# Altium footprint library linear regulators.PcbLib: 1 footprints
Each footprint in its own frame and in the unit in brackets; x right, y up, seen from the top. Pads: shape width x height; smd on the part's side, far side on the other; paste and mask are expansions set on the pad; w line width, h text height; cw(c..) or ccw(c..) is an arc to the next point about the centre after c.
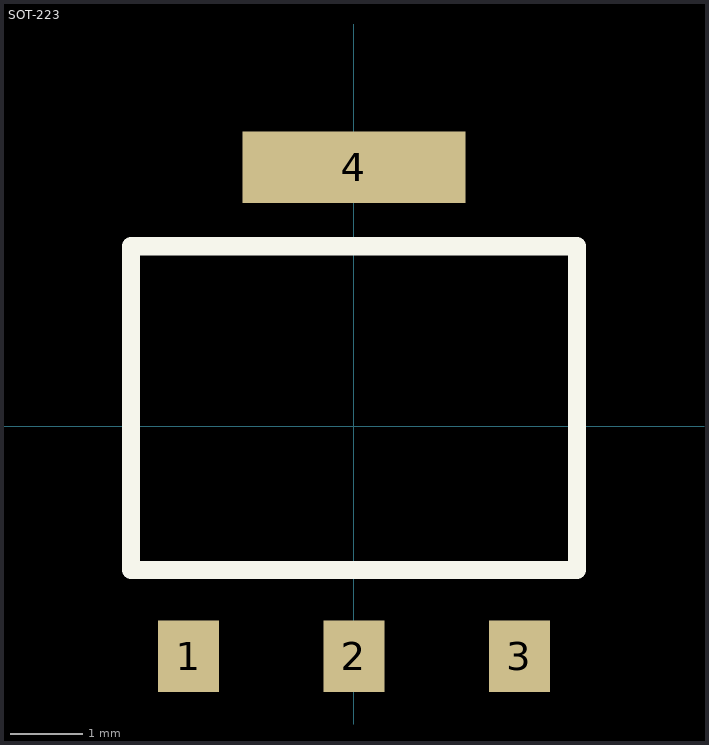
[diagram p0: the footprint, top view; thin cyan lines are the x and y axes]

## SOT-223 [mm] "LM1117"
height 1.8
pads (4):
  rect 0.85x1 smd: 1(-2.3,-3.2) 2(0,-3.2) 3(2.3,-3.2)
  rect 3.1x1 smd: 4(0,3.6)
Top Overlay:
  lines w0.254: -3.1,-2 3.1,-2 3.1,2.5 -3.1,2.5 -3.1,-2